# Altium footprint library ESHF-110-01-L-D-TH.PcbLib: 1 footprints
Each footprint in its own frame and in the unit in brackets; x right, y up, seen from the top. Pads: shape width x height; smd on the part's side, far side on the other; paste and mask are expansions set on the pad; w line width, h text height; cw(c..) or ccw(c..) is an arc to the next point about the centre after c.
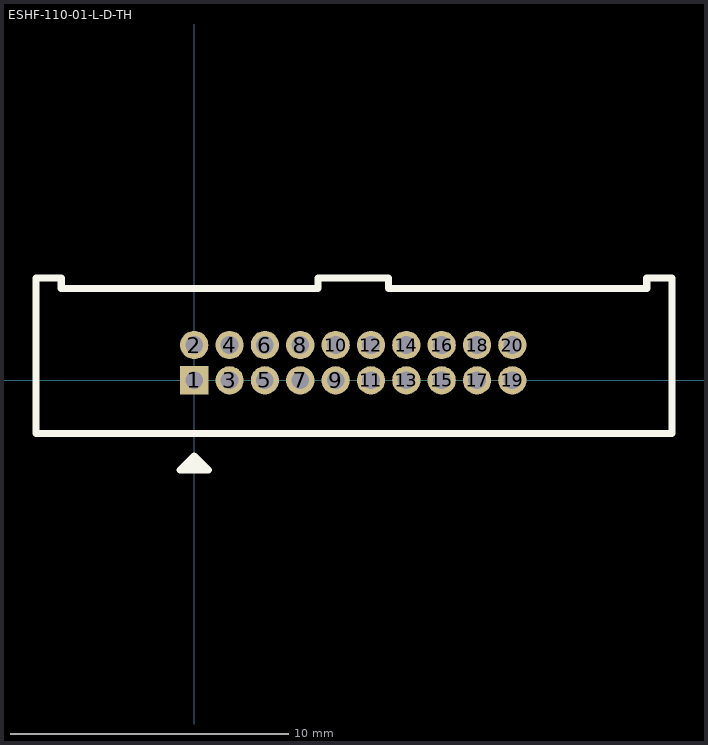
[diagram p0: the footprint, top view; thin cyan lines are the x and y axes]

## ESHF-110-01-L-D-TH [mil] "2x10 IDC Header"
pads (20):
  rect 40x40 hole 25: 1(0,0)
  round 40 hole 25: 2(0,50) 3(50,0) 4(50,50) 5(100,0) 6(100,50) 7(150,0) 8(150,50) 9(200,0) 10(200,50) 11(250,0) 12(250,50) 13(300,0) 14(300,50) 15(350,0) 16(350,50) 17(400,0) 18(400,50) 19(450,0) 20(450,50)
Top Overlay:
  lines w10: 7,-118 -11,-118 -20,-127 ; -20,-127 0,-107 ; -20,-127 0,-127 ; 0,-127 20,-127 0,-107 ; 0,-127 0,-107 ; -224,-75 676,-75 676,145 640,145 640,130 275,130 275,145 175,145 175,130 -188,130 -188,145 -224,145 -224,-75
3D body: height 205, standoff -80, extent -224,-75.1 676,145